# EAGLE library part K-HEADER-FEMALE-1X12- (library elpp-v1.1)
FEMALE HEADER
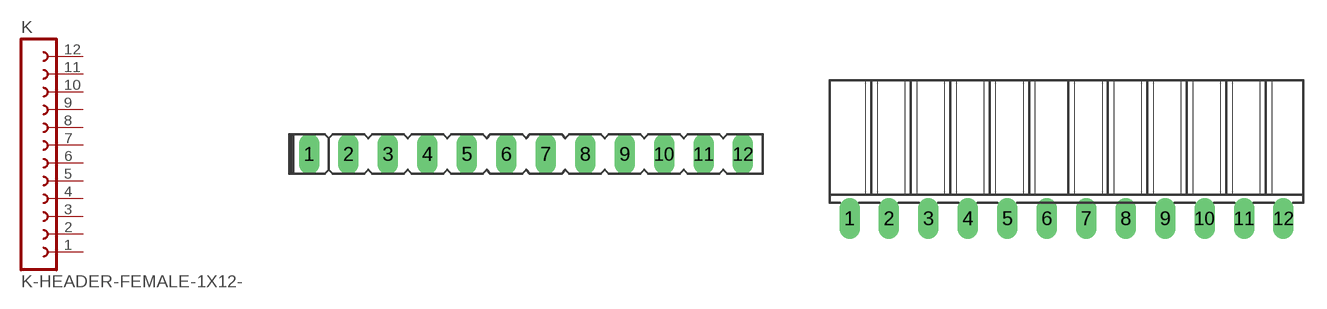
[diagram p24: symbol with the pads of EPP-SIL-F-12-WAY; footprints EPP-SIL-F-12-WAY, EPP-SIL-F-12-WAY-90DEG]

Designator prefix K

## K-HEADER-FEMALE-1X12-V (FARNELL: 9728856; RS: unknown)  [EPP-SIL-F-12-WAY]
1  1  pas
2  2  pas
3  3  pas
4  4  pas
5  5  pas
6  6  pas
7  7  pas
8  8  pas
9  9  pas
10  10  pas
11  11  pas
12  12  pas

## K-HEADER-FEMALE-1X12-H (FARNELL: 9728880; RS: unknown)  [EPP-SIL-F-12-WAY-90DEG]
Pads as for EPP-SIL-F-12-WAY

## Footprint EPP-SIL-F-12-WAY (pad centres in mm)
FEMALE HEADER, 1 row
drill 0.8 long: 1 -13.97,0; 2 -11.43,0; 3 -8.89,0; 4 -6.35,0; 5 -3.81,0; 6 -1.27,0; 7 1.27,0; 8 3.81,0; 9 6.35,0; 10 8.89,0; 11 11.43,0; 12 13.97,0

## Footprint EPP-SIL-F-12-WAY-90DEG (pad centres in mm)
FEMALE HEADER, 1 row, 90 degrees
drill 0.8 long: 1 -13.97,0; 2 -11.43,0; 3 -8.89,0; 4 -6.35,0; 5 -3.81,0; 6 -1.27,0; 7 1.27,0; 8 3.81,0; 9 6.35,0; 10 8.89,0; 11 11.43,0; 12 13.97,0